# EAGLE library part FT232R (library My_FTDI)
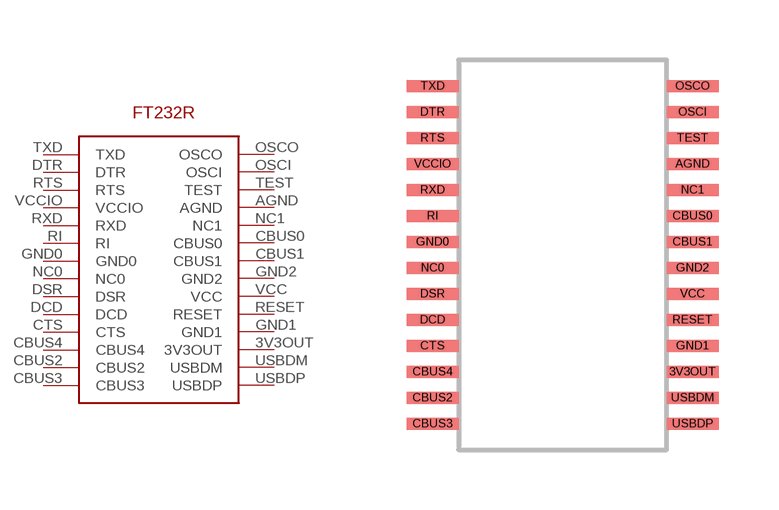
[diagram p0: symbol with the pads of FT232; footprint FT232]

Designator prefix -

## FT232R  [FT232]
3V3OUT  3V3OUT
AGND  AGND
CBUS0  CBUS0
CBUS1  CBUS1
CBUS2  CBUS2
CBUS3  CBUS3
CBUS4  CBUS4
CTS  CTS
DCD  DCD
DSR  DSR
DTR  DTR
GND0  GND0
GND1  GND1
GND2  GND2
NC0  NC0
NC1  NC1
OSCI  OSCI
OSCO  OSCO
RESET  RESET
RI  RI
RTS  RTS
RXD  RXD
TEST  TEST
TXD  TXD
USBDM  USBDM
USBDP  USBDP
VCC  VCC
VCCIO  VCCIO

## Footprint FT232 (pad centres in mm)
smd 1.3 x 0.3: 3V3OUT 3.25,-2.6; AGND 3.25,2.6; CBUS0 3.25,1.3; CBUS1 3.25,0.65; CBUS2 -3.25,-3.25; CBUS3 -3.25,-3.9; CBUS4 -3.25,-2.6; CTS -3.25,-1.95; DCD -3.25,-1.3; DSR -3.25,-0.65; DTR -3.25,3.9; GND0 -3.25,0.65; GND1 3.25,-1.95; GND2 3.25,0; NC0 -3.25,0; NC1 3.25,1.95; OSCI 3.25,3.9; OSCO 3.25,4.55; RESET 3.25,-1.3; RI -3.25,1.3; RTS -3.25,3.25; RXD -3.25,1.95; TEST 3.25,3.25; TXD -3.25,4.55; USBDM 3.25,-3.25; USBDP 3.25,-3.9; VCC 3.25,-0.65; VCCIO -3.25,2.6